# EAGLE library part ISP6 (library common)
PIN HEADER
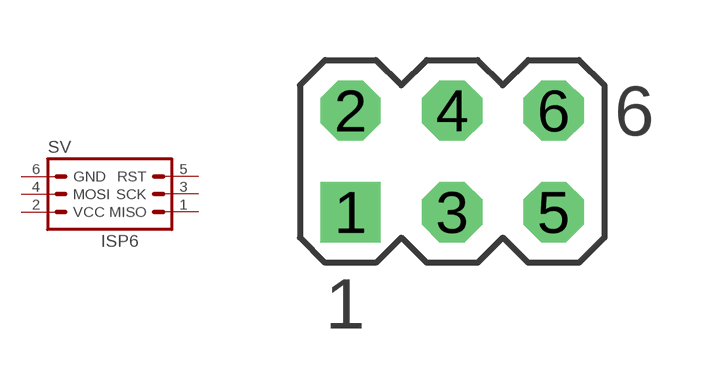
[diagram p9: symbol with the pads of MA03-2; footprint MA03-2]

Designator prefix SV

## ISP6 (OC_FARNELL: unknown; OC_NEWARK: unknown)  [MA03-2]
1  MISO  pas
2  VCC  pas
3  SCK  pas
4  MOSI  pas
5  RST  pas
6  GND  pas

## Footprint MA03-2 (pad centres in mm)
PIN HEADER
drill 1 square: 1 -2.54,-1.27
drill 1 octagon: 2 -2.54,1.27; 3 0,-1.27; 4 0,1.27; 5 2.54,-1.27; 6 2.54,1.27